# EAGLE library part M62352 (library dac)
8-BIT 12CH D-A CONVERTER WITH BUFFER AMPLIFIERS
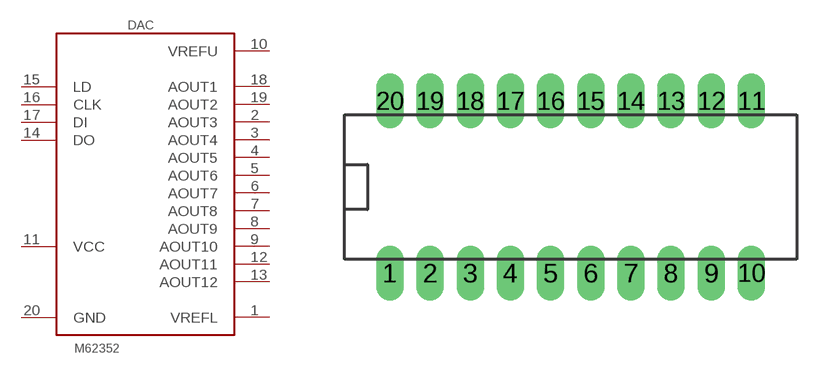
[diagram p0: symbol with the pads of PPDIP20; footprint PPDIP20]

Designator prefix DAC

## M62352P  [PPDIP20]
1  VREFL  pwr
2  AOUT3  out
3  AOUT4  out
4  AOUT5  out
5  AOUT6  out
6  AOUT7  out
7  AOUT8  out
8  AOUT9  out
9  AOUT10  out
10  VREFU  pwr
11  VCC  pwr
12  AOUT11  out
13  AOUT12  out
14  DO  out
15  LD  in
16  CLK  in
17  DI  in
18  AOUT1  out
19  AOUT2  out
20  GND  pwr

## Footprint PPDIP20 (pad centres in mm)
drill 0.7 long: 1 -8.001,-3.81; 2 -6.223,-3.81; 3 -4.445,-3.81; 4 -2.667,-3.81; 5 -0.889,-3.81; 6 0.889,-3.81; 7 2.667,-3.81; 8 4.445,-3.81; 9 6.223,-3.81; 10 8.001,-3.81; 11 8.001,3.81; 12 6.223,3.81; 13 4.445,3.81; 14 2.667,3.81; 15 0.889,3.81; 16 -0.889,3.81; 17 -2.667,3.81; 18 -4.445,3.81; 19 -6.223,3.81; 20 -8.001,3.81